# EAGLE library part 10250-6212PC (library Connectors)
Mini Ribbon Connector
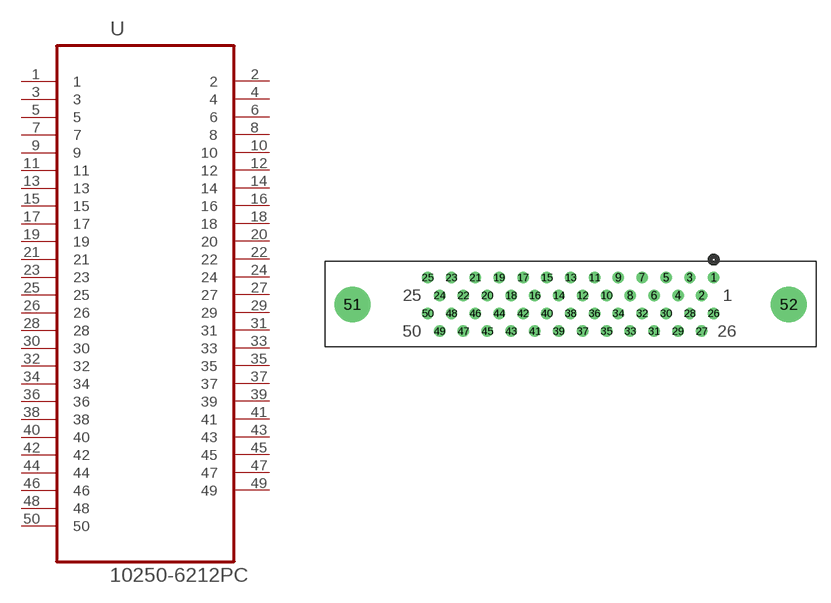
[diagram p2: symbol with the pads of 3M_10250-6212PC; footprint 3M_10250-6212PC]

Designator prefix U

## 10250-6212PC (MPN: 10250-6212PC; OC_FARNELL: -; OC_NEWARK: 83K0558; PACKAGE: Mini Ribbon Conectors-50Pin; SUPPLIER: 3M)  [3M_10250-6212PC]
1  1  pas
2  2  pas
3  3  pas
4  4  pas
5  5  pas
6  6  pas
7  7  pas
8  8  pas
9  9  pas
10  10  pas
11  11  pas
12  12  pas
13  13  pas
14  14  pas
15  15  pas
16  16  pas
17  17  pas
18  18  pas
19  19  pas
20  20  pas
21  21  pas
22  22  pas
23  23  pas
24  24  pas
25  25  pas
26  26  pas
27  27  pas
28  28  pas
29  29  pas
30  30  pas
31  31  pas
32  32  pas
33  33  pas
34  34  pas
35  35  pas
36  36  pas
37  37  pas
38  38  pas
39  39  pas
40  40  pas
41  41  pas
42  42  pas
43  43  pas
44  44  pas
45  45  pas
46  46  pas
47  47  pas
48  48  pas
49  49  pas
50  50  pas

## Footprint 3M_10250-6212PC (pad centres in mm)
drill 0.711: 1 30.48,5.715; 2 29.21,3.81; 3 27.94,5.715; 4 26.67,3.81; 5 25.4,5.715; 6 24.13,3.81; 7 22.86,5.715; 8 21.59,3.81; 9 20.32,5.715; 10 19.05,3.81; 11 17.78,5.715; 12 16.51,3.81; 13 15.24,5.715; 14 13.97,3.81; 15 12.7,5.715; 16 11.43,3.81; 17 10.16,5.715; 18 8.89,3.81; 19 7.62,5.715; 20 6.35,3.81; 21 5.08,5.715; 22 3.81,3.81; 23 2.54,5.715; 24 1.27,3.81; 25 0,5.715; 26 30.48,1.905; 27 29.21,0; 28 27.94,1.905; 29 26.67,0; 30 25.4,1.905; 31 24.13,0; 32 22.86,1.905; 33 21.59,0; 34 20.32,1.905; 35 19.05,0; 36 17.78,1.905; 37 16.51,0; 38 15.24,1.905; 39 13.97,0; 40 12.7,1.905; 41 11.43,0; 42 10.16,1.905; 43 8.89,0; 44 7.62,1.905; 45 6.35,0; 46 5.08,1.905; 47 3.81,0; 48 2.54,1.905; 49 1.27,0; 50 0,1.905
drill 2.794: 51 -8.001,2.845; 52 38.481,2.845